# EAGLE library part ZG2100MC (library 24x16_RGB_ATXMega_Wifi)
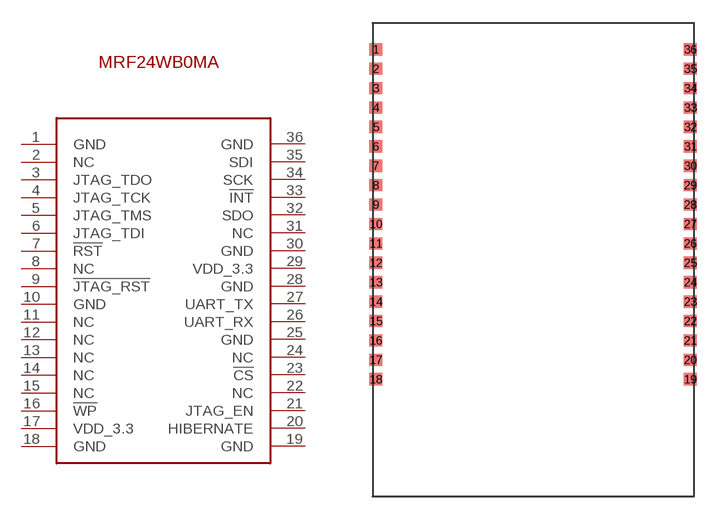
[diagram p4: symbol with the pads of ZG2100MC; footprint ZG2100MC]

Designator prefix -

## ZG2100MC  [ZG2100MC]
1  GND
2  NC
3  JTAG_TDO
4  JTAG_TCK
5  JTAG_TMS
6  JTAG_TDI
7  !RST
8  NC
9  !JTAG_RST
10  GND
11  NC
12  NC
13  NC
14  NC
15  NC
16  !WP
17  VDD_3.3
18  GND
19  GND
20  HIBERNATE
21  JTAG_EN
22  NC
23  !CS
24  NC
25  GND
26  UART_RX
27  UART_TX
28  GND
29  VDD_3.3
30  GND
31  NC
32  SDO
33  !INT
34  SCK
35  SDI
36  GND

## Footprint ZG2100MC (pad centres in mm)
smd 0.85 x 0.8: 1 0.21,29.27; 2 0.21,28; 3 0.21,26.73; 4 0.21,25.46; 5 0.21,24.19; 6 0.21,22.92; 7 0.21,21.65; 8 0.21,20.38; 9 0.21,19.11; 10 0.21,17.84; 11 0.21,16.57; 12 0.21,15.3; 13 0.21,14.03; 14 0.21,12.76; 15 0.21,11.49; 16 0.21,10.22; 17 0.21,8.95; 18 0.21,7.68; 19 20.77,7.68; 20 20.77,8.95; 21 20.77,10.22; 22 20.77,11.49; 23 20.77,12.76; 24 20.77,14.03; 25 20.77,15.3; 26 20.77,16.57; 27 20.77,17.84; 28 20.77,19.11; 29 20.77,20.38; 30 20.77,21.65; 31 20.77,22.92; 32 20.77,24.19; 33 20.77,25.46; 34 20.77,26.73; 35 20.77,28; 36 20.77,29.27